# Altium footprint library LGA-16_4x4mm.PcbLib: 1 footprints
Each footprint in its own frame and in the unit in brackets; x right, y up, seen from the top. Pads: shape width x height; smd on the part's side, far side on the other; paste and mask are expansions set on the pad; w line width, h text height; cw(c..) or ccw(c..) is an arc to the next point about the centre after c.
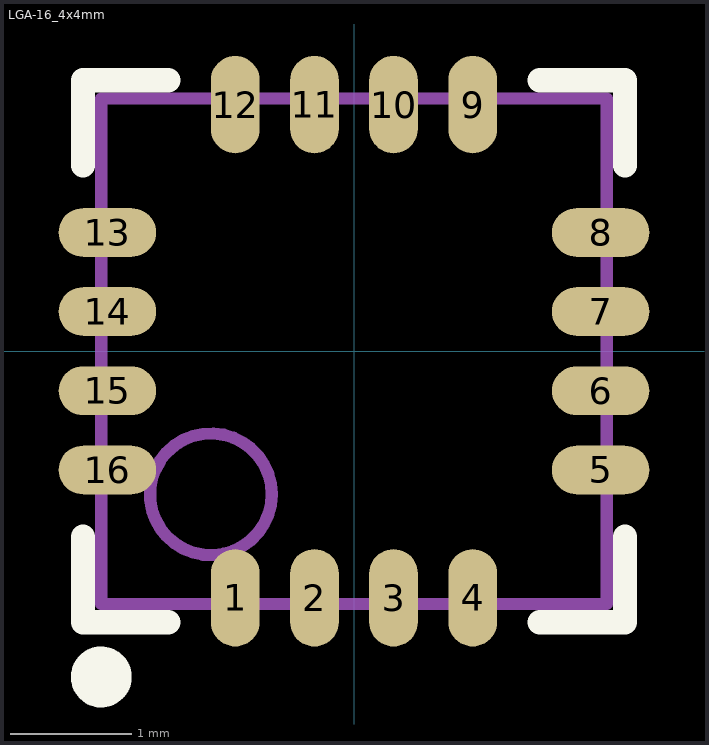
[diagram p0: the footprint, top view; thin cyan lines are the x and y axes]

## LGA-16_4x4mm [mm]
pads (16):
  oval 0.4x0.8 smd mask+0.051: 1(-0.975,-2.025) 2(-0.325,-2.025) 3(0.325,-2.025) 4(0.975,-2.025) 9(0.975,2.025) 10(0.325,2.025) 11(-0.325,2.025) 12(-0.975,2.025)
  oval 0.8x0.4 smd mask+0.051: 5(2.025,-0.975) 6(2.025,-0.325) 7(2.025,0.325) 8(2.025,0.975) 13(-2.025,0.975) 14(-2.025,0.325) 15(-2.025,-0.325) 16(-2.025,-0.975)
Top Overlay:
  circle w0.25: c-2.075,-2.675 r0.125
  lines w0.2: -2.225,-1.525 -2.225,-2.225 -1.525,-2.225 ; -2.225,1.525 -2.225,2.225 -1.525,2.225 ; 1.525,-2.225 2.225,-2.225 2.225,-1.525 ; 1.525,2.225 2.225,2.225 2.225,1.525
Mechanical 13:
  circle w0.1: c-1.175,-1.175 r0.5
  lines w0.1: -2.075,-2.075 -2.075,2.075 2.075,2.075 2.075,-2.075 -2.075,-2.075